# Altium footprint library TAG_V2.PcbLib: 27 footprints (part 2 of 2)
Each footprint in its own frame and in the unit in brackets; x right, y up, seen from the top. Pads: shape width x height; smd on the part's side, far side on the other; paste and mask are expansions set on the pad; w line width, h text height; cw(c..) or ccw(c..) is an arc to the next point about the centre after c.
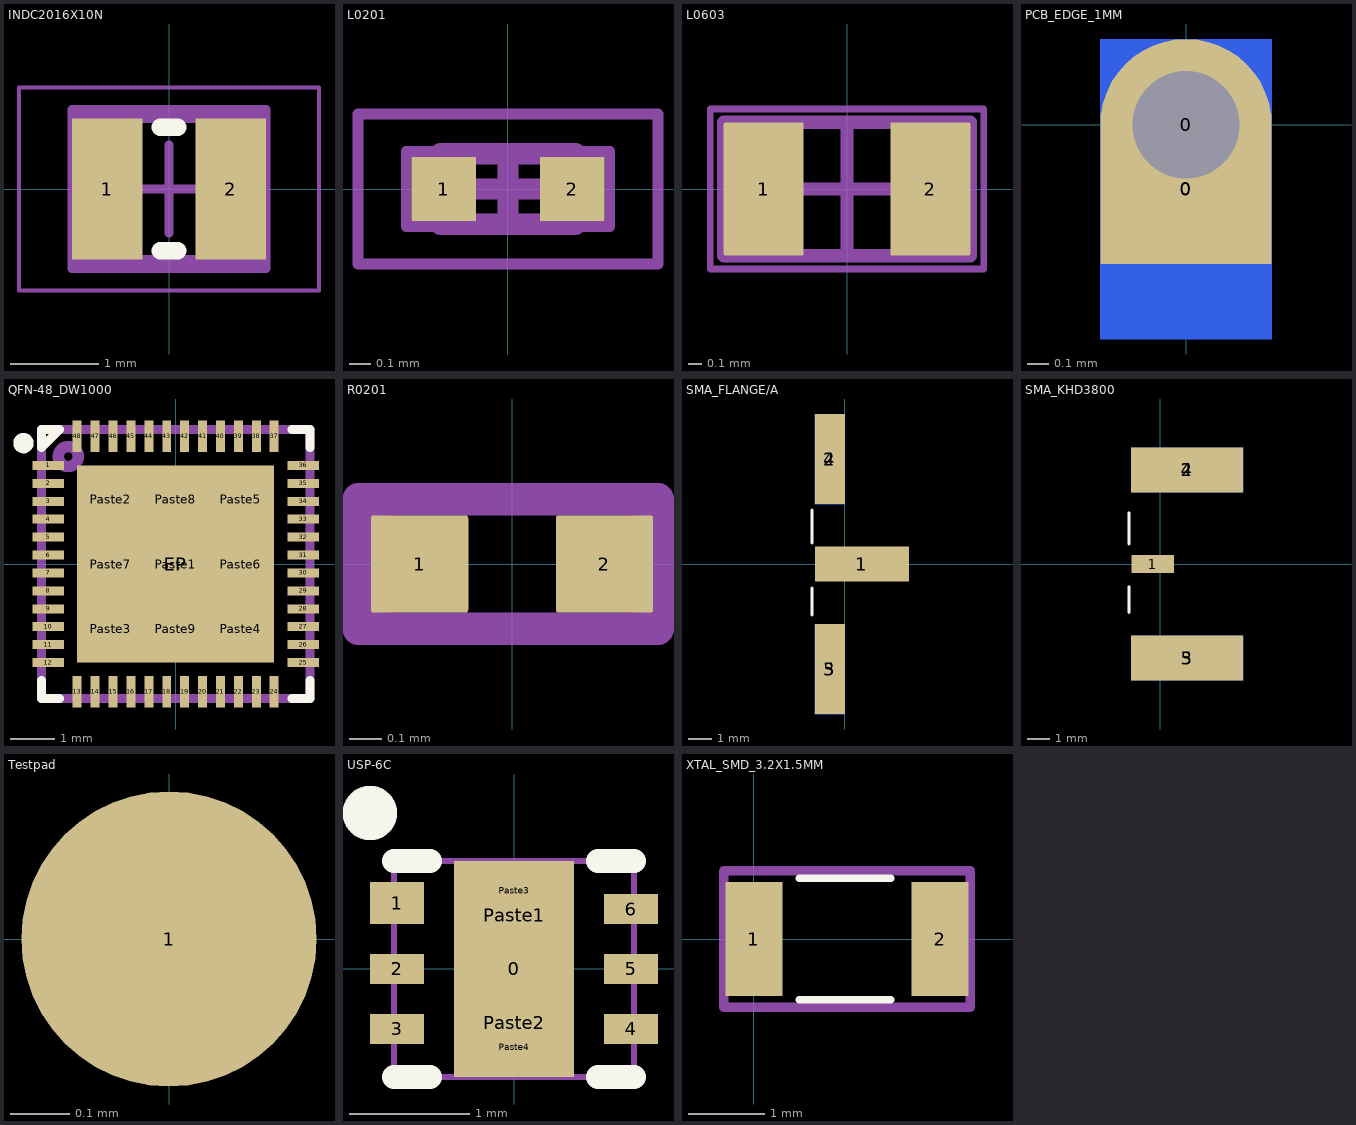
[diagram p1: the footprints below, top view; thin cyan lines are the x and y axes]

## INDC2016X10N [mm]
pads (2):
  rect 0.8x1.6 smd: 1(-0.7,0) 2(0.7,0)
Top Overlay:
  lines w0.2: -0.1,-0.7 0.1,-0.7 ; -0.1,0.7 0.1,0.7
Mechanical 13:
  lines w0.1: -1.1,-0.9 1.1,-0.9 1.1,0.9 -1.1,0.9 -1.1,-0.9
Mechanical 15:
  lines w0.05: -1.7,-1.15 1.7,-1.15 1.7,1.15 -1.7,1.15 -1.7,-1.15
  lines w0.1: -0.5,0 0.5,0 ; 0,-0.5 0,0.5
Mechanical 16:
  lines w0.1: -1.1,-0.8 -1.1,0.8 1.1,0.8 1.1,-0.8 -1.1,-0.8
Mechanical 29:
  text ".Designator" at -0.45,-0.225 h0.6
Mechanical 30:
  text ".Comment" at -0.275,-1.95 h0.4
3D body: height 1, standoff 0, extent -1.1,-0.9 1.1,0.9

## L0201 [mm]
pads (2):
  rect 0.3x0.3 smd: 1(-0.3,0) 2(0.3,0)
Mechanical 13:
  lines w0.1: -0.315,-0.165 -0.315,0.165 0.315,0.165 0.315,-0.165 -0.315,-0.165
Mechanical 15:
  lines w0.05: -0.7,-0.35 -0.7,0.35 0.7,0.35 0.7,-0.35 -0.7,-0.35
  lines w0.1: -0.165,0 0.165,0 ; 0,-0.165 0,0.165
Mechanical 16:
  lines w0.05: -0.475,-0.175 0.475,-0.175 0.475,0.175 -0.475,0.175 -0.475,-0.175
Mechanical 29:
  text ".Designator" at -0.16,-0.11 h0.2
Mechanical 30:
  text ".Comment" at -0.41,-0.085 h0.18
3D body: height 0.3, standoff 0, extent -0.315,-0.165 0.315,0.165

## L0603 [mm]
pads (2):
  rrect5% 0.6x1 smd: 1(-0.625,0) 2(0.625,0)
Mechanical 13:
  lines w0.1: -0.9,-0.5 0.9,-0.5 0.9,0.5 -0.9,0.5 -0.9,-0.5
Mechanical 15:
  lines w0.05: -1.025,-0.6 1.025,-0.6 1.025,0.6 -1.025,0.6 -1.025,-0.6
  lines w0.1: -0.5,0 0.5,0 ; 0,-0.5 0,0.5
Mechanical 16:
  lines w0.1: -0.925,-0.5 -0.925,0.5 0.925,0.5 0.925,-0.5 -0.925,-0.5
Mechanical 29:
  text ".Designator" at 0.5,0.32 h0.6
Mechanical 30:
  text ".Comment" at 0.7,0.15 h0.4
3D body: height 1, standoff 0, extent -0.9,-0.5 0.9,0.5

## PCB_EDGE_1MM [mm] "PCB EDGE PIN"
pads (3):
  rect 0.8x1.4 smd far side: 0(0,-0.3)
  rect 0.8x0.7 smd paste-0.4: 0(0,-0.3)
  round 0.8 hole 0.5: 0(0,0)

## QFN-48_DW1000 [mm]
pads (58):
  rect 0.7x0.2 smd: 1(-2.85,2.2) 2(-2.85,1.8)
  rect 0.7x0.2 smd mask+0.05: 3(-2.85,1.4) 4(-2.85,1) 5(-2.85,0.6) 6(-2.85,0.2) 7(-2.85,-0.2) 8(-2.85,-0.6) 9(-2.85,-1) 10(-2.85,-1.4) 11(-2.85,-1.8) 12(-2.85,-2.2) 25(2.85,-2.2) 26(2.85,-1.8) 27(2.85,-1.4) 28(2.85,-1) 29(2.85,-0.6) 30(2.85,-0.2) 31(2.85,0.2) 32(2.85,0.6) 33(2.85,1) 34(2.85,1.4) 35(2.85,1.8) 36(2.85,2.2)
  rect 0.2x0.7 smd mask+0.05: 13(-2.2,-2.85) 14(-1.8,-2.85) 15(-1.4,-2.85) 18(-0.2,-2.85) 19(0.2,-2.85) 20(0.6,-2.85) 21(1,-2.85) 22(1.4,-2.85) 23(1.8,-2.85) 24(2.2,-2.85) 37(2.2,2.85) 38(1.8,2.85) 39(1.4,2.85) 40(1,2.85) 41(0.6,2.85) 42(0.2,2.85) 43(-0.2,2.85) 44(-0.6,2.85) 45(-1,2.85) 46(-1.4,2.85) 47(-1.8,2.85)
  rect 0.2x0.7 smd: 16(-1,-2.85) 17(-0.6,-2.85) 48(-2.2,2.85)
  rect 4.4x4.4 smd paste-4.4 mask+0.05: EP(0,0)
  rect 1.3x1.3 on Top Paste mask+0.05: Paste1(0,0) Paste2(-1.45,1.45) Paste3(-1.45,-1.45) Paste4(1.45,-1.45) Paste5(1.45,1.45) Paste6(1.45,0) Paste7(-1.45,0) Paste8(0,1.45) Paste9(0,-1.45)
Top Overlay:
  circle w0.254: c-3.4,2.7 r0.1
  lines w0.2: -3,-2.6 -3,-3 -2.6,-3 ; 2.6,-3 3,-3 3,-2.6 ; 2.6,3 3,3 3,2.6 ; -3,2.6 -3,3 -2.6,3 -3,2.6
Mechanical 13:
  lines w0.1: -3,-3 3,-3 3,3 -3,3 -3,-3
Mechanical 16:
  circle w0.254: c-2.4,2.4 r0.224
  lines w0.2: -3,-3 3,-3 3,3 -3,3 -3,-3
Mechanical 29:
  text ".Designator" at 0.855,0.415 h1
Mechanical 30:
  text "DW1000" at 2.175,0.275 h0.8
3D body: height 1, standoff 0, extent -3,-3 3,3

## R0201 [mm]
pads (2):
  rrect5% 0.3x0.3 smd mask+0.04: 1(-0.285,0) 2(0.285,0)
Mechanical 16:
  lines w0.1: -0.425,-0.15 -0.425,-0.125 -0.425,0.15 ; 0.425,-0.15 0.425,0.15 ; -0.475,-0.2 -0.475,0.2 0.45,0.2 0.45,-0.2 -0.475,-0.2
Mechanical 29:
  text ".Designator" at -0.175,-0.125 h0.25
Mechanical 30:
  text ".Comment" at -0.3,-0.1 h0.17
3D body: height 0.32, standoff -0.01, extent -0.3,-0.15 0.3,0.15

## SMA_FLANGE/A [mm]
pads (5):
  rect 4x1.5 smd: 1(0.73,0)
  rect 1.27x3.81 smd: 2(-0.635,4.445) 3(-0.635,-4.445)
  rect 1.27x3.81 smd far side: 4(-0.635,4.445) 5(-0.635,-4.445)
Top Overlay:
  lines w0.127: -1.397,-2.159 -1.397,-1.016 ; -1.397,0.889 -1.397,2.286

## SMA_KHD3800 [mm]
pads (5):
  rect 1.9x0.8 smd: 1(-0.33,0)
  rect 5x2 smd: 2(1.2,4.2) 3(1.2,-4.2)
  rect 5x2 smd far side: 4(1.2,4.2) 5(1.2,-4.2)
Top Overlay:
  lines w0.127: -1.397,-2.159 -1.397,-1.016 ; -1.397,0.889 -1.397,2.286

## Testpad [mm]
pads (1):
  round 0.5 smd paste-0.5: 1(0,0)

## USP-6C [mm]
pads (11):
  rect 1x1.8 smd paste-1.8: 0(0,0)
  rect 0.45x0.35 smd paste-0.04: 1(-0.975,0.55)
  rect 0.45x0.25 smd paste-0.04: 2(-0.975,0) 3(-0.975,-0.5) 4(0.975,-0.5) 5(0.975,0) 6(0.975,0.5)
  rect 0.8x0.3 on Top Paste paste+0: Paste1(0,0.45) Paste2(0,-0.45)
  rect 0.5x0.1 on Top Paste paste+0: Paste3(0,0.65) Paste4(0,-0.65)
Top Overlay:
  circle w0.254: c-1.2,1.3 r0.1
  lines w0.2: -1,-0.9 -0.7,-0.9 ; -1,0.9 -0.7,0.9 ; 0.7,-0.9 1,-0.9 ; 0.7,0.9 1,0.9
Mechanical 16:
  lines w0.05: -1,-0.9 -1,0.9 1,0.9 1,-0.9 -1,-0.9
Mechanical 29:
  text ".Designator" at 0.8,0.475 h1
Mechanical 30:
  text ".Comment" at 2.3,2 h0.25
3D body: height 0.6, standoff 0, extent -0.999,-0.899 0.999,0.899

## XTAL_SMD_3.2X1.5MM [mm]
pads (2):
  rect 0.75x1.5 smd: 1(0,0) 2(2.45,0)
Top Overlay:
  lines w0.102: 0.6,-0.8 1.8,-0.8 ; 0.6,0.8 1.8,0.8
Mechanical 16:
  lines w0.127: -0.4,-0.9 -0.4,0.9 2.85,0.9 2.85,-0.9 -0.4,-0.9
Mechanical 29:
  text ".Designator" at 2.075,0.475 h1
Mechanical 30:
  text "KCBB" at 2.725,0.35 h0.8
3D body: height 0.9, standoff 0, extent -0.375,-0.75 2.825,0.75